# Altium schematic symbol library SCH - OPAMP - TI OPA191 DBV.SchLib: 1 symbol
Pins are listed as number, name and electrical type; pins without a type are passive.

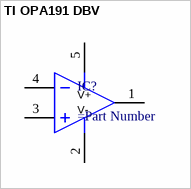
[diagram p0: symbol TI OPA191 DBV]

## TI OPA191 DBV
designator IC?
pins: 1 OUT, 2 V- (power), 3 IN+, 4 IN-, 5 V+ (power)